# EAGLE library part TPS2003CDRCR (library ruark2)
Power Switch/Driver 1:2 N-Channel 2A 10-VSON (3x3) 2A
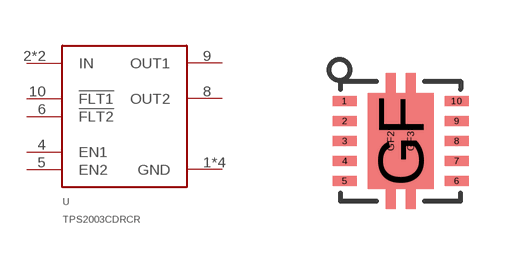
[diagram p151: symbol with the pads of 10-VDFN; footprint 10-VDFN]

Designator prefix U

## TPS2003CDRCR (PARTNO: 296-40700-1-ND)  [10-VDFN]
1  GND
2  IN
3  IN
4  EN1
5  EN2
6  !FLT2
8  OUT2
9  OUT1
10  !FLT1
GF  GND
GF2  GND
GF3  GND

## Footprint 10-VDFN (pad centres in mm)
smd 0.6 x 0.24: 1 -1.4,1; 2 -1.4,0.5; 3 -1.4,0; 4 -1.4,-0.5; 5 -1.4,-1; 6 1.4,-1; 7 1.4,-0.5; 8 1.4,0; 9 1.4,0.5; 10 1.4,1
smd 1.65 x 2.4: GF 0,0
smd 0.25 x 3.4: GF2 -0.25,0; GF3 0.25,0